# Altium footprint library CM0_footprint.PcbLib: 1 footprints
Each footprint in its own frame and in the unit in brackets; x right, y up, seen from the top. Pads: shape width x height; smd on the part's side, far side on the other; paste and mask are expansions set on the pad; w line width, h text height; cw(c..) or ccw(c..) is an arc to the next point about the centre after c.
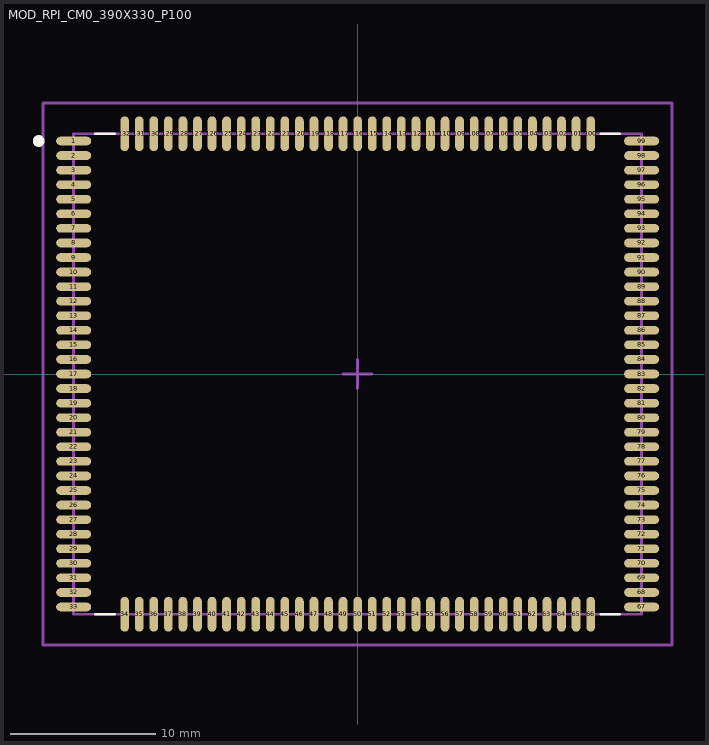
[diagram p0: the footprint, top view; thin cyan lines are the x and y axes]

## MOD_RPI_CM0_390X330_P100 [mm]
pads (132):
  oval 2.4x0.6 smd: 1(-19.5,16) 2(-19.5,15) 3(-19.5,14) 4(-19.5,13) 5(-19.5,12) 6(-19.5,11) 7(-19.5,10) 8(-19.5,9) 9(-19.5,8) 10(-19.5,7) 11(-19.5,6) 12(-19.5,5) 13(-19.5,4) 14(-19.5,3) 15(-19.5,2) 16(-19.5,1) 17(-19.5,0) 18(-19.5,-1) 19(-19.5,-2) 20(-19.5,-3) 21(-19.5,-4) 22(-19.5,-5) 23(-19.5,-6) 24(-19.5,-7) 25(-19.5,-8) 26(-19.5,-9) 27(-19.5,-10) 28(-19.5,-11) 29(-19.5,-12) 30(-19.5,-13) 31(-19.5,-14) 32(-19.5,-15) 33(-19.5,-16) 67(19.5,-16) 68(19.5,-15) 69(19.5,-14) 70(19.5,-13) 71(19.5,-12) 72(19.5,-11) 73(19.5,-10) 74(19.5,-9) 75(19.5,-8) 76(19.5,-7) 77(19.5,-6) 78(19.5,-5) 79(19.5,-4) 80(19.5,-3) 81(19.5,-2) 82(19.5,-1) 83(19.5,0) 84(19.5,1) 85(19.5,2) 86(19.5,3) 87(19.5,4) 88(19.5,5) 89(19.5,6) 90(19.5,7) 91(19.5,8) 92(19.5,9) 93(19.5,10) 94(19.5,11) 95(19.5,12) 96(19.5,13) 97(19.5,14) 98(19.5,15) 99(19.5,16)
  oval 0.6x2.4 smd: 34(-16,-16.5) 35(-15,-16.5) 36(-14,-16.5) 37(-13,-16.5) 38(-12,-16.5) 39(-11,-16.5) 40(-10,-16.5) 41(-9,-16.5) 42(-8,-16.5) 43(-7,-16.5) 44(-6,-16.5) 45(-5,-16.5) 46(-4,-16.5) 47(-3,-16.5) 48(-2,-16.5) 49(-1,-16.5) 50(0,-16.5) 51(1,-16.5) 52(2,-16.5) 53(3,-16.5) 54(4,-16.5) 55(5,-16.5) 56(6,-16.5) 57(7,-16.5) 58(8,-16.5) 59(9,-16.5) 60(10,-16.5) 61(11,-16.5) 62(12,-16.5) 63(13,-16.5) 64(14,-16.5) 65(15,-16.5) 66(16,-16.5) 100(16,16.5) 101(15,16.5) 102(14,16.5) 103(13,16.5) 104(12,16.5) 105(11,16.5) 106(10,16.5) 107(9,16.5) 108(8,16.5) 109(7,16.5) 110(6,16.5) 111(5,16.5) 112(4,16.5) 113(3,16.5) 114(2,16.5) 115(1,16.5) 116(0,16.5) 117(-1,16.5) 118(-2,16.5) 119(-3,16.5) 120(-4,16.5) 121(-5,16.5) 122(-6,16.5) 123(-7,16.5) 124(-8,16.5) 125(-9,16.5) 126(-10,16.5) 127(-11,16.5) 128(-12,16.5) 129(-13,16.5) 130(-14,16.5) 131(-15,16.5) 132(-16,16.5)
Top Overlay:
  circle w0.4: c-21.9,16 r0.2
  lines w0.2: -18,-16.5 -16.7,-16.5 ; -18,16.5 -16.7,16.5 ; 16.7,-16.5 18,-16.5 ; 16.7,16.5 18,16.5
Mechanical 19:
  circle w0.4: c-21.9,16 r0.2
  lines w0.2: -19.5,-16.5 19.5,-16.5 19.5,16.5 -19.5,16.5 -19.5,-16.5
  text ".Designator" at -9.3,-0.5 h2
Mechanical 23:
  lines w0.2: -1,0 1,0 ; 0,-1 0,1 ; -21.6,-18.6 21.6,-18.6 21.6,18.6 -21.6,18.6 -21.6,-18.6
3D body "RPI_CM0.step": height 2.63, standoff 0.04, extent -19.502,-16.501 19.502,16.501